# EAGLE library part 74HC240D (library NXP_By_element14_Batch_1)
Octal buffer/line driver
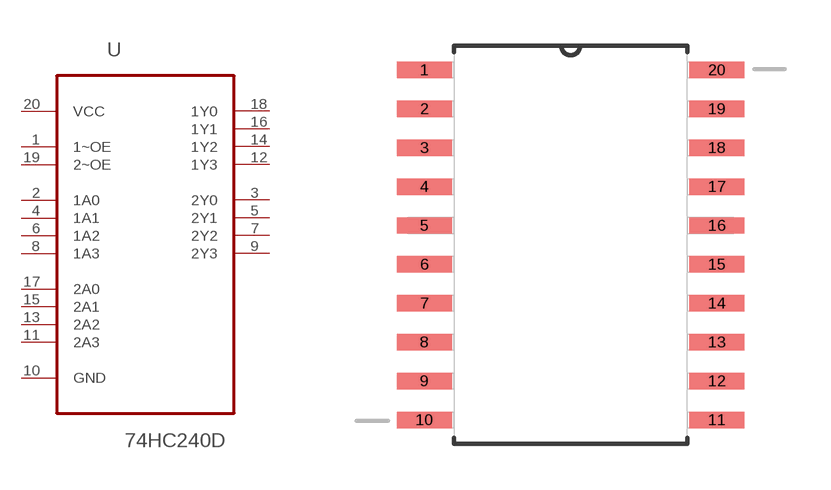
[diagram p56: symbol with the pads of SOIC127P1032X265-20N; footprint SOIC127P1032X265-20N]

Designator prefix U

## 74HC240D (MPN: 74HC240D; OC_FARNELL: 1085273; OC_NEWARK: 99K0587; P1I: o; PACKAGE: SOIC-20; SUPPLIER: NXP)  [SOIC127P1032X265-20N]
1  1~OE  in
2  1A0  in
3  2Y0  out
4  1A1  in
5  2Y1  out
6  1A2  in
7  2Y2  out
8  1A3  in
9  2Y3  out
10  GND  pas
11  2A3  in
12  1Y3  out
13  2A2  in
14  1Y2  out
15  2A1  in
16  1Y1  out
17  2A0  in
18  1Y0  out
19  2~OE  in
20  VCC  pwr

## Footprint SOIC127P1032X265-20N (pad centres in mm)
smd 1.803 x 0.533: 1 -4.775,5.715; 2 -4.775,4.445; 3 -4.775,3.175; 4 -4.775,1.905; 5 -4.775,0.635; 6 -4.775,-0.635; 7 -4.775,-1.905; 8 -4.775,-3.175; 9 -4.775,-4.445; 10 -4.775,-5.715; 11 4.775,-5.715; 12 4.775,-4.445; 13 4.775,-3.175; 14 4.775,-1.905; 15 4.775,-0.635; 16 4.775,0.635; 17 4.775,1.905; 18 4.775,3.175; 19 4.775,4.445; 20 4.775,5.715